# Altium schematic symbol library LIC.SCHLIB: 3 symbols
Pins are listed as number, name and electrical type; pins without a type are passive.

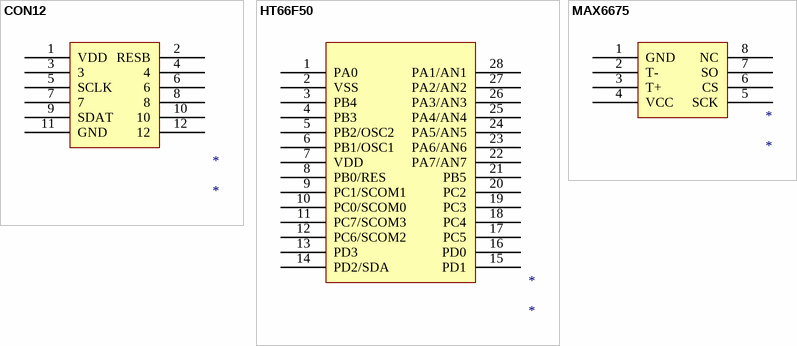
[diagram p0: symbols CON12 to MAX6675]

## CON12
designator *
pins: 1 VDD, 2 RESB, 3, 4, 5 SCLK, 6, 7, 8, 9 SDAT, 10, 11 GND, 12

## HT66F50
designator *
pins: 1 PA0, 2 VSS, 3 PB4, 4 PB3, 5 PB2/OSC2, 6 PB1/OSC1, 7 VDD, 8 PB0/RES, 9 PC1/SCOM1, 10 PC0/SCOM0, 11 PC7/SCOM3, 12 PC6/SCOM2, 13 PD3, 14 PD2/SDA, 15 PD1, 16 PD0, 17 PC5, 18 PC4, 19 PC3, 20 PC2, 21 PB5, 22 PA7/AN7, 23 PA6/AN6, 24 PA5/AN5, 25 PA4/AN4, 26 PA3/AN3, 27 PA2/AN2, 28 PA1/AN1

## MAX6675
designator *
pins: 1 GND, 2 T-, 3 T+, 4 VCC, 5 SCK, 6 CS, 7 SO, 8 NC